# EAGLE library part ADA-BT (library soofa_library)
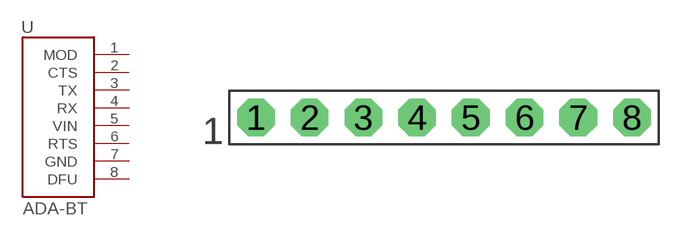
[diagram p2: symbol with the pads of 1X08-BIG; footprint 1X08-BIG]

Designator prefix -

## ADA-BT  [1X08-BIG]
1  MOD
2  CTS
3  TX
4  RX
5  VIN
6  RTS
7  GND
8  DFU

## Footprint 1X08-BIG (pad centres in mm)
drill 1.016 pad 1.778 octagon: 1 -8.89,0; 2 -6.35,0; 3 -3.81,0; 4 -1.27,0; 5 1.27,0; 6 3.81,0; 7 6.35,0; 8 8.89,0